# EAGLE library part C8051F33X (library cygnal_mini)
Cygnal C8051F330/1 microcontroller
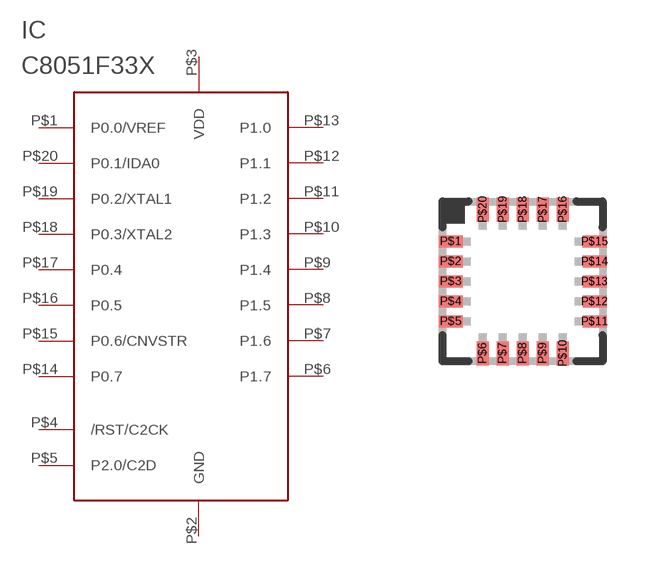
[diagram p2: symbol with the pads of MLP20; footprint MLP20]

Designator prefix IC

## C8051F33X  [MLP20]
P$1  P0.0/VREF
P$2  GND  pwr
P$3  VDD  pwr
P$4  /RST/C2CK
P$5  P2.0/C2D
P$6  P1.7
P$7  P1.6
P$8  P1.5
P$9  P1.4
P$10  P1.3
P$11  P1.2
P$12  P1.1
P$13  P1.0
P$14  P0.7
P$15  P0.6/CNVSTR
P$16  P0.5
P$17  P0.4
P$18  P0.3/XTAL2
P$19  P0.2/XTAL1
P$20  P0.1/IDA0

## Footprint MLP20 (pad centres in mm)
Cygnal MLP20
smd 0.6 x 0.3: P$1 -1.8,1; P$2 -1.8,0.5; P$3 -1.8,0; P$4 -1.8,-0.5; P$5 -1.8,-1; P$11 1.8,-1; P$12 1.8,-0.5; P$13 1.8,0; P$14 1.8,0.5; P$15 1.8,1
smd 0.3 x 0.6: P$6 -1,-1.8; P$7 -0.5,-1.8; P$8 0,-1.8; P$9 0.5,-1.8; P$10 1,-1.8; P$16 1,1.8; P$17 0.5,1.8; P$18 0,1.8; P$19 -0.5,1.8; P$20 -1,1.8